# Altium footprint library cirrus-logic.PCBLIB: 2 footprints
Each footprint in its own frame and in the unit in brackets; x right, y up, seen from the top. Pads: shape width x height; smd on the part's side, far side on the other; paste and mask are expansions set on the pad; w line width, h text height; cw(c..) or ccw(c..) is an arc to the next point about the centre after c.
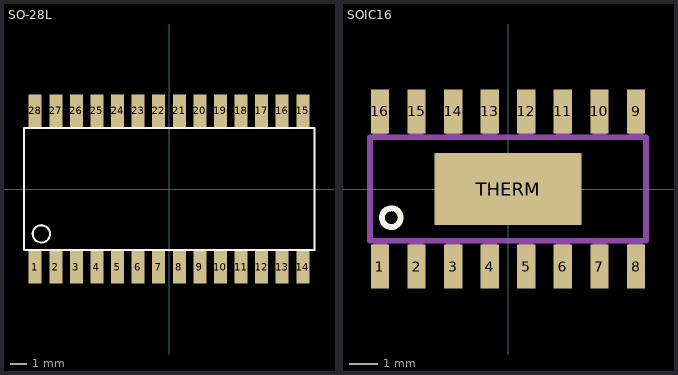
[diagram p0: the footprints below, top view; thin cyan lines are the x and y axes]

## SO-28L [mil]
pads (28):
  rect 31.5x78.74 smd: 1(-325,-190) 2(-275,-190) 3(-225,-190) 4(-175,-190) 5(-125,-190) 6(-75,-190) 7(-25,-190) 8(25,-190) 9(75,-190) 10(125,-190) 11(175,-190) 12(225,-190) 13(275,-190) 14(325,-190) 15(325,190) 16(275,190) 17(225,190) 18(175,190) 19(125,190) 20(75,190) 21(25,190) 22(-25,190) 23(-75,190) 24(-125,190) 25(-175,190) 26(-225,190) 27(-275,190) 28(-325,190)
Top Overlay:
  circle w5: c-310,-109 r21
  lines w5: -352,-148 353,-148 353,148 -352,148 -352,-148
Mechanical 16:
  rectangle: -335,-209 -315,-149
  rectangle: -285,-209 -265,-149
  rectangle: -235,-209 -215,-149
  rectangle: -185,-209 -165,-149
  rectangle: -135,-209 -115,-149
  rectangle: -85,-209 -65,-149
  rectangle: -35,-209 -15,-149
  rectangle: 15,-209 35,-149
  rectangle: 65,-209 85,-149
  rectangle: 115,-209 135,-149
  rectangle: 165,-209 185,-149
  rectangle: 215,-209 235,-149
  rectangle: 265,-209 285,-149
  rectangle: 315,-209 335,-149
  rectangle: 315,149 335,209
  rectangle: 265,149 285,209
  rectangle: 215,149 235,209
  rectangle: 165,149 185,209
  rectangle: 115,149 135,209
  rectangle: 65,149 85,209
  rectangle: 15,149 35,209
  rectangle: -35,149 -15,209
  rectangle: -85,149 -65,209
  rectangle: -135,149 -115,209
  rectangle: -185,149 -165,209
  rectangle: -235,149 -215,209
  rectangle: -285,149 -265,209
  rectangle: -335,149 -315,209

## SOIC16 [mil]
pads (17):
  rect 25x60 smd: 1(-175,-106.1) 2(-125,-106.1) 3(-75,-106.1) 4(-25,-106.1) 5(25,-106.1) 6(75,-106.1) 7(125,-106.1) 8(175,-106.1) 9(175,106.1) 10(125,106.1) 11(75,106.1) 12(25,106.1) 13(-25,106.1) 14(-75,106.1) 15(-125,106.1) 16(-175,106.1)
  rect 200.79x98.43 smd: THERM(0,0)
Top Overlay:
  circle w8: c-159.45,-39.17 r12.82
Mechanical 16:
  rectangle: -184.65,-115 -165.35,-74.61
  rectangle: -134.65,-115 -115.35,-74.61
  rectangle: -84.65,-115 -65.35,-74.61
  rectangle: -34.65,-115 -15.35,-74.61
  rectangle: 15.35,-115 34.65,-74.61
  rectangle: 65.35,-115 84.65,-74.61
  rectangle: 115.35,-115 134.65,-74.61
  rectangle: 165.35,-115 184.65,-74.61
  rectangle: 165.35,74.61 184.65,115
  rectangle: 115.35,74.61 134.65,115
  rectangle: 65.35,74.61 84.65,115
  rectangle: 15.35,74.61 34.65,115
  rectangle: -34.65,74.61 -15.35,115
  rectangle: -84.65,74.61 -65.35,115
  rectangle: -134.65,74.61 -115.35,115
  rectangle: -184.65,74.61 -165.35,115
  lines w8: -188.58,-70.67 188.58,-70.67 188.58,70.67 -188.58,70.67 -188.58,-70.67